# EAGLE library part ATMEGA*U2 (library atmega_u2)
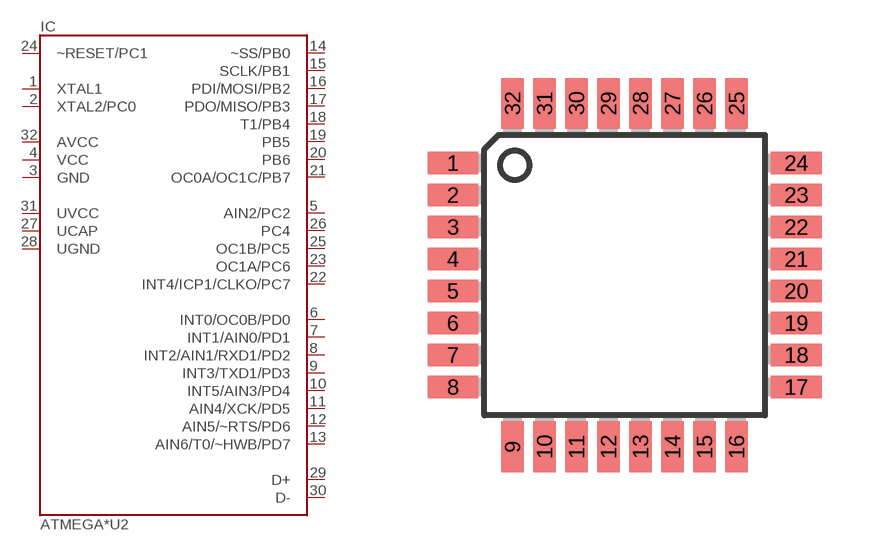
[diagram p0: symbol with the pads of TQFP32-08; footprint TQFP32-08]

Designator prefix IC

## ATMEGA8U2, ATMEGA16U2, ATMEGA32U2  [TQFP32-08]
1  XTAL1  pas
2  XTAL2/PC0  pas
3  GND  pas
4  VCC  pas
5  AIN2/PC2
6  INT0/OC0B/PD0
7  INT1/AIN0/PD1
8  INT2/AIN1/RXD1/PD2
9  INT3/TXD1/PD3
10  INT5/AIN3/PD4
11  AIN4/XCK/PD5
12  AIN5/~RTS/PD6
13  AIN6/T0/~HWB/PD7
14  ~SS/PB0
15  SCLK/PB1
16  PDI/MOSI/PB2
17  PDO/MISO/PB3
18  T1/PB4
19  PB5
20  PB6
21  OC0A/OC1C/PB7
22  INT4/ICP1/CLKO/PC7
23  OC1A/PC6
24  ~RESET/PC1
25  OC1B/PC5
26  PC4
27  UCAP  pas
28  UGND  pas
29  D+
30  D-
31  UVCC  pas
32  AVCC  pas

## Footprint TQFP32-08 (pad centres in mm)
Thin Plasic Quad Flat Package Grid 0.8 mm
smd 1.27 x 0.559: 1 -4.293,2.8; 2 -4.293,2; 3 -4.293,1.2; 4 -4.293,0.4; 5 -4.293,-0.4; 6 -4.293,-1.2; 7 -4.293,-2; 8 -4.293,-2.8; 17 4.293,-2.8; 18 4.293,-2; 19 4.293,-1.2; 20 4.293,-0.4; 21 4.293,0.4; 22 4.293,1.2; 23 4.293,2; 24 4.293,2.8
smd 0.559 x 1.27: 9 -2.8,-4.293; 10 -2,-4.293; 11 -1.2,-4.293; 12 -0.4,-4.293; 13 0.4,-4.293; 14 1.2,-4.293; 15 2,-4.293; 16 2.8,-4.293; 25 2.8,4.293; 26 2,4.293; 27 1.2,4.293; 28 0.4,4.293; 29 -0.4,4.293; 30 -1.2,4.293; 31 -2,4.293; 32 -2.8,4.293